# Altium integrated library ADA3708.IntLib: 1 symbol
Pins are listed as number, name and electrical type; pins without a type are passive.

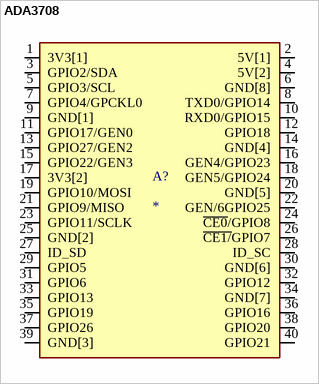
[diagram p0: symbol ADA3708]

## ADA3708
designator A?
Raspberry Pi Zero WH (Zero W with Headers); MP: ADA3708; Availability: Unavailable; Package: None; Value: *; Price: None
footprint ADA3708_RPI-ZERO
pins: 1 3V3[1] (power), 2 5V[1] (power), 3 GPIO2/SDA (io), 4 5V[2] (power), 5 GPIO3/SCL (io), 6 GND[8] (power), 7 GPIO4/GPCKL0 (io), 8 TXD0/GPIO14 (io), 9 GND[1] (power), 10 RXD0/GPIO15 (io), 11 GPIO17/GEN0 (io), 12 GPIO18 (io), 13 GPIO27/GEN2 (io), 14 GND[4] (power), 15 GPIO22/GEN3 (io), 16 GEN4/GPIO23 (io), 17 3V3[2] (power), 18 GEN5/GPIO24 (io), 19 GPIO10/MOSI (io), 20 GND[5] (power), 21 GPIO9/MISO (io), 22 GEN/6GPIO25 (io), 23 GPIO11/SCLK (io), 24 ~{CE0}/GPIO8 (io), 25 GND[2] (power), 26 ~{CE1/}GPIO7 (io), 27 ID_SD (io), 28 ID_SC (io), 29 GPIO5 (io), 30 GND[6] (power), 31 GPIO6 (io), 32 GPIO12 (io), 33 GPIO13 (io), 34 GND[7] (power), 35 GPIO19 (io), 36 GPIO16 (io), 37 GPIO26 (io), 38 GPIO20 (io), 39 GND[3] (power), 40 GPIO21 (io)